# Altium footprint library User.PcbLib: 4 footprints
Each footprint in its own frame and in the unit in brackets; x right, y up, seen from the top. Pads: shape width x height; smd on the part's side, far side on the other; paste and mask are expansions set on the pad; w line width, h text height; cw(c..) or ccw(c..) is an arc to the next point about the centre after c.
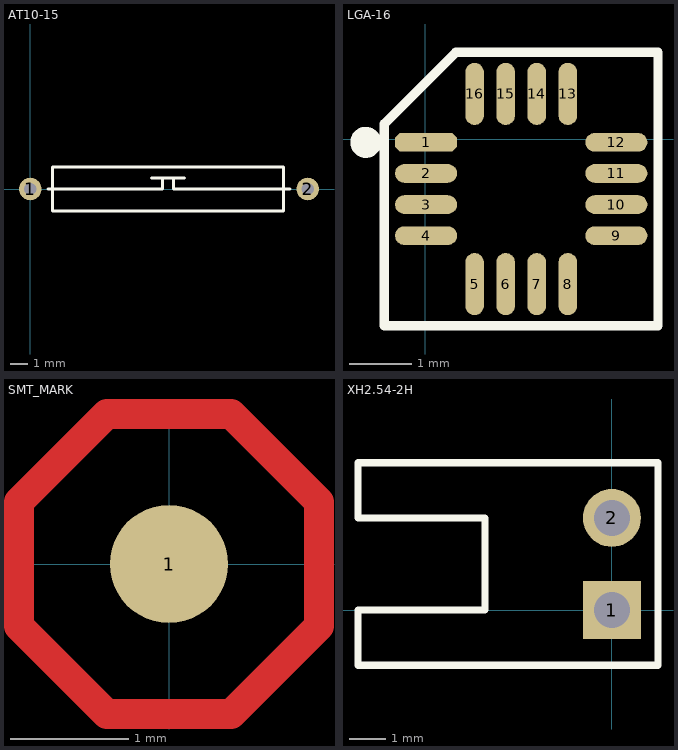
[diagram p0: the footprints below, top view; thin cyan lines are the x and y axes]

## AT10-15 [mm] "AT10-15 干簧管 15mm"
pads (2):
  round 1.3 hole 0.7: 1(0,0) 2(16,0)
Top Overlay:
  lines w0.178: 1.016,0 6.985,0 7.62,0 7.62,0.635 ; 6.985,0.635 8.89,0.635 ; 8.255,0.635 8.255,0 14.986,0 ; 1.27,-1.27 14.605,-1.27 14.605,1.27 1.27,1.27 1.27,-1.27

## LGA-16 [mm]
pads (16):
  oct 1x0.3 smd: 1(0.01,-0.051)
  oval 1x0.3 smd: 2(0.01,-0.551) 3(0.01,-1.051) 4(0.01,-1.551) 9(3.07,-1.551) 10(3.07,-1.051) 11(3.07,-0.551) 12(3.07,-0.051)
  oval 0.3x1 smd: 5(0.79,-2.331) 6(1.29,-2.331) 7(1.79,-2.331) 8(2.29,-2.331) 13(2.29,0.729) 14(1.79,0.729) 15(1.29,0.729) 16(0.79,0.729)
Top Overlay:
  circle w0.25: c-0.96,-0.051 r0.125
  lines w0.152: -0.66,-3.001 3.74,-3.001 3.74,1.399 0.49,1.399 -0.66,0.249 -0.66,-3.001

## SMT_MARK [mm] "SMT 定位标志"
pads (1):
  round 1 smd mask+0.5: 1(0,0)
Top Layer:
  lines w0.254: -1.27,-0.526 -1.27,0.526 -0.526,1.27 0.526,1.27 1.27,0.526 1.27,-0.526 0.526,-1.27 -0.526,-1.27 -1.27,-0.526

## XH2.54-2H [mm] "水平连接器"
height 6
pads (2):
  rect 1.6x1.6 hole 1: 1(0,0)
  round 1.6 hole 1: 2(0,2.54)
Top Overlay:
  lines w0.2: -7,2.54 -7,4.064 1.27,4.064 1.27,-1.524 -7,-1.524 -7,0 -3.5,0 -3.5,2.54 -6.985,2.54